# Altium schematic symbol library GOST_Capacitors.SchLib: 3 symbols
Pins are listed as number, name and electrical type; pins without a type are passive.

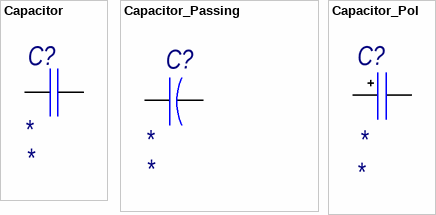
[diagram p0: symbols Capacitor to Capacitor_Pol]

## Capacitor
designator C?
Manufacture: *; Case: *; HelpURL: *; Model: *; Voltage: *; Capacitance: *
pins: 1 С+ (power), 2 С- (power)

## Capacitor_Passing
designator C?
Model: *; HelpURL: *; Case: *; Manufacture: *; Voltage: *; Capacitance: *
pins: 1 C+ (power), 2 C- (power)

## Capacitor_Pol
designator C?
Model: *; HelpURL: *; Manufacure: *; Manufacture: *; Capacitance: *; Voltage: *
pins: 1 C+ (power), 2 C- (power)